# Altium footprint library con-panasonic.PCBLIB: 1 footprints
Each footprint in its own frame and in the unit in brackets; x right, y up, seen from the top. Pads: shape width x height; smd on the part's side, far side on the other; paste and mask are expansions set on the pad; w line width, h text height; cw(c..) or ccw(c..) is an arc to the next point about the centre after c.
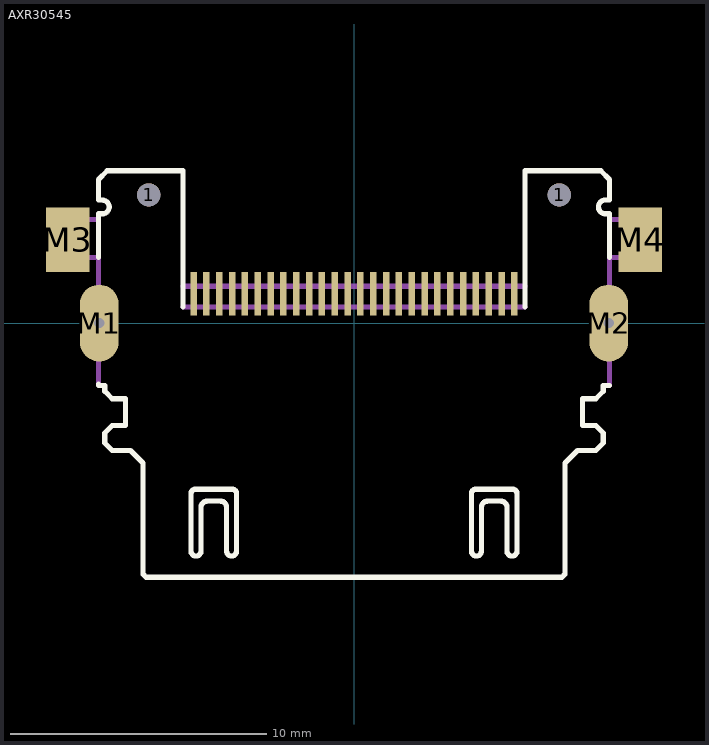
[diagram p0: the footprint, top view; thin cyan lines are the x and y axes]

## AXR30545 [mm]
pads (32):
  round 0.9 hole 0.9: 1(-8,5) 1(8,5)
  rect 0.25x1.7 smd: 1(-6.25,1.15) 2(-5.75,1.15) 3(-5.25,1.15) 4(-4.75,1.15) 5(-4.25,1.15) 6(-3.75,1.15) 7(-3.25,1.15) 8(-2.75,1.15) 9(-2.25,1.15) 10(-1.75,1.15) 11(-1.25,1.15) 12(-0.75,1.15) 13(-0.25,1.15) 14(0.25,1.15) 15(0.75,1.15) 16(1.25,1.15) 17(1.75,1.15) 18(2.25,1.15) 19(2.75,1.15) 20(3.25,1.15) 21(3.75,1.15) 22(4.25,1.15) 23(4.75,1.15) 24(5.25,1.15) 25(5.75,1.15) 26(6.25,1.15)
  oval 1.5x3 hole 0.4: M1(-9.925,0) M2(9.925,0)
  rect 1.7x2.5 smd: M3(-11.15,3.25) M4(11.15,3.25)
Top Overlay:
  lines w0.203: -9.955,-2.385 -9.955,-2.434 -9.711,-2.434 -9.711,-2.653 -9.687,-2.677 ; -9.955,2.555 -9.955,4.04 -9.955,4.259 -9.808,4.259 ccw(c-9.808,4.527) -9.808,4.795 -9.955,4.795 -9.955,5.598 -9.614,5.939 -6.669,5.939 -6.669,1.436 -6.669,0.633 ; -5.72,-6.937 ccw(c-5.72,-7.18) -5.963,-7.18 -5.963,-8.884 cw(c-6.158,-8.884) -6.352,-8.884 -6.352,-6.645 cw(c-6.182,-6.645) -6.182,-6.474 -4.746,-6.474 cw(c-4.746,-6.645) -4.576,-6.645 -4.576,-8.884 cw(c-4.77,-8.884) -4.965,-8.884 -4.965,-7.18 ccw(c-5.208,-7.18) -5.209,-6.937 -5.646,-6.937 ; 5.209,-6.937 ccw(c5.209,-7.18) 4.965,-7.18 4.965,-8.884 cw(c4.771,-8.884) 4.576,-8.884 4.576,-6.645 cw(c4.746,-6.645) 4.746,-6.474 6.182,-6.474 cw(c6.182,-6.645) 6.353,-6.645 6.353,-8.884 cw(c6.158,-8.884) 5.963,-8.884 5.963,-7.18 ccw(c5.72,-7.18) 5.72,-6.937 5.282,-6.937 ; 6.669,0.633 6.669,1.436 6.669,5.939 9.614,5.939 9.955,5.598 9.955,4.795 9.833,4.795 ccw(c9.797,4.527) 9.76,4.259 9.955,4.259 9.955,4.04 9.955,2.555 ; 9.955,-2.434 9.711,-2.434 9.711,-2.653 9.419,-2.945 8.908,-2.945 8.908,-3.992 9.419,-3.992 9.711,-4.284 9.711,-4.673 9.419,-4.965 8.713,-4.965 8.227,-5.452 8.227,-9.785 8.105,-9.906 -8.105,-9.906 -8.227,-9.784 -8.227,-5.452 -8.713,-4.965 -9.419,-4.965 -9.711,-4.673 -9.711,-4.284 -9.419,-3.992 -8.908,-3.992 -8.908,-2.945 -9.419,-2.945 -9.687,-2.677 ; -9.687,-2.677 -9.687,-2.677
Top Solder:
  rectangle: -6.4,0.25 -6.1,2.05
  rectangle: -5.9,0.25 -5.6,2.05
  rectangle: -5.4,0.25 -5.1,2.05
  rectangle: -4.9,0.25 -4.6,2.05
  rectangle: -4.4,0.25 -4.1,2.05
  rectangle: -3.9,0.25 -3.6,2.05
  rectangle: -3.4,0.25 -3.1,2.05
  rectangle: -2.9,0.25 -2.6,2.05
  rectangle: -2.4,0.25 -2.1,2.05
  rectangle: -1.9,0.25 -1.6,2.05
  rectangle: -1.4,0.25 -1.1,2.05
  rectangle: -0.9,0.25 -0.6,2.05
  rectangle: -0.4,0.25 -0.1,2.05
  rectangle: 0.1,0.25 0.4,2.05
  rectangle: 0.6,0.25 0.9,2.05
  rectangle: 1.1,0.25 1.4,2.05
  rectangle: 1.6,0.25 1.9,2.05
  rectangle: 2.1,0.25 2.4,2.05
  rectangle: 2.6,0.25 2.9,2.05
  rectangle: 3.1,0.25 3.4,2.05
  rectangle: 3.6,0.25 3.9,2.05
  rectangle: 4.1,0.25 4.4,2.05
  rectangle: 4.6,0.25 4.9,2.05
  rectangle: 5.1,0.25 5.4,2.05
  rectangle: 5.6,0.25 5.9,2.05
  rectangle: 6.1,0.25 6.4,2.05
Mechanical 11:
  lines w0: -10.125,-0.7 -10.125,0.7 cw(c-9.925,0.7) -9.725,0.7 -9.725,-0.7 cw(c-9.925,-0.7) -10.125,-0.7 ; 9.725,-0.7 9.725,0.7 cw(c9.925,0.7) 10.125,0.7 10.125,-0.7 cw(c9.925,-0.7) 9.725,-0.7
Mechanical 16:
  lines w0.203: -9.955,-2.385 -9.955,2.555 -11.439,2.555 -11.439,4.04 -9.955,4.04 ; -6.669,0.633 6.669,0.633 ; -6.669,1.436 6.669,1.436 ; 9.955,-2.434 9.955,2.555 11.439,2.555 11.439,4.04 9.955,4.04